# EAGLE library part IF_MKL26Z128VFM4 (library mbed-HDK-MF-NXP)
CMSIS-DAP Interface - Kinetis KL26: 48MHz Cortex-M0+ Ultra-Low Power MCU, 128KB Flash, 16KB SRAM, Full-Speed USB, 32-QFN
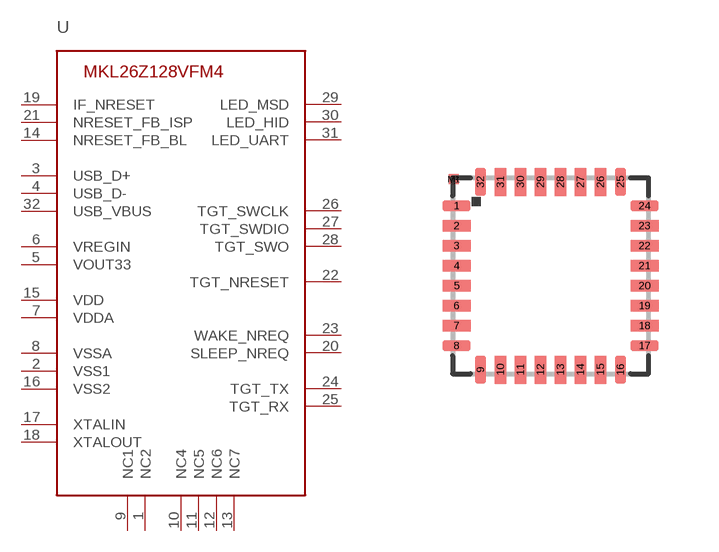
[diagram p9: symbol with the pads of HVQFN32; footprint HVQFN32]

Designator prefix U

## IF_MKL26Z128VFM4 (MF: NXP; MFN: MKL26Z128VFM4; OC-DIGIKEY: MKL26Z128VFM4-ND; OC-MOUSER: 841-MKL26Z128VFM4; OC-NEWARK: 69W2668)  [HVQFN32]
1  NC2
2  VSS1
3  USB_D+
4  USB_D-
5  VOUT33
6  VREGIN
7  VDDA
8  VSSA
9  NC1
10  NC4
11  NC5
12  NC6
13  NC7
14  NRESET_FB_BL
15  VDD
16  VSS2
17  XTALIN
18  XTALOUT
19  IF_NRESET
20  SLEEP_NREQ
21  NRESET_FB_ISP
22  TGT_NRESET
23  WAKE_NREQ
24  TGT_TX
25  TGT_RX
26  TGT_SWCLK
27  TGT_SWDIO
28  TGT_SWO
29  LED_MSD
30  LED_HID
31  LED_UART
32  USB_VBUS

## Footprint HVQFN32 (pad centres in mm)
smd 0.7 x 0.28: 1 -2.35,1.75; 2 -2.35,1.25; 3 -2.35,0.75; 4 -2.35,0.25; 5 -2.35,-0.25; 6 -2.35,-0.75; 7 -2.35,-1.25; 8 -2.35,-1.75; 17 2.35,-1.75; 18 2.35,-1.25; 19 2.35,-0.75; 20 2.35,-0.25; 21 2.35,0.25; 22 2.35,0.75; 23 2.35,1.25; 24 2.35,1.75
smd 0.28 x 0.7: 9 -1.75,-2.35; 10 -1.25,-2.35; 11 -0.75,-2.35; 12 -0.25,-2.35; 13 0.25,-2.35; 14 0.75,-2.35; 15 1.25,-2.35; 16 1.75,-2.35; 25 1.75,2.35; 26 1.25,2.35; 27 0.75,2.35; 28 0.25,2.35; 29 -0.25,2.35; 30 -0.75,2.35; 31 -1.25,2.35; 32 -1.75,2.35
smd 0.25 x 0.25: M1 -2.415,2.415